# Altium footprint library 2019-12-05_19-06-33.PcbLib: 1 footprints
Each footprint in its own frame and in the unit in brackets; x right, y up, seen from the top. Pads: shape width x height; smd on the part's side, far side on the other; paste and mask are expansions set on the pad; w line width, h text height; cw(c..) or ccw(c..) is an arc to the next point about the centre after c.
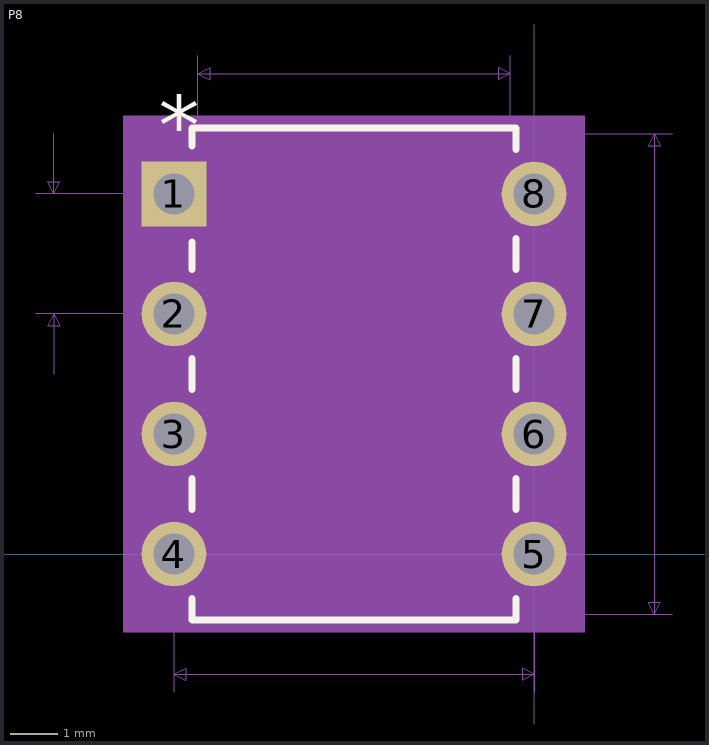
[diagram p0: the footprint, top view; thin cyan lines are the x and y axes]

## P8 [mil]
pads (8):
  rect 54x54 hole 34 mask+0: 1(-300,300)
  round 54 hole 34 mask+0: 2(-300,200) 3(-300,100) 4(-300,0) 5(0,0) 6(0,100) 7(0,200) 8(0,300)
Top Overlay:
  lines w6: -285,-37.19 -285,-55 -15,-55 -15,-37.19 ; -285,37.19 -285,62.81 ; -285,137.19 -285,162.81 ; -285,237.19 -285,259.9 ; -285,340.1 -285,355 -15,355 -15,337.19 ; -15,37.19 -15,62.81 ; -15,137.19 -15,162.81 ; -15,237.19 -15,262.81
  text "*" at -312.5,332 h50
Mechanical 5:
  region: 42,-65 -342,-65 -342,365 42,365
Mechanical 7:
  lines w1: -415,200 -300,200 ; -415,300 -300,300 ; -400,150 -400,200 ; -400,350 -400,300 ; -300,-115 -300,0 ; -280,0 -280,415 ; -150,-50 115,-50 ; -150,350 115,350 ; -20,0 -20,415 ; 0,-115 0,0 ; -400,200 -405,190 -395,190 -400,200 ; -400,300 -405,310 -395,310 -400,300 ; -300,-100 0,-100 ; -300,-100 -290,-95 -290,-105 -300,-100 ; -280,400 -20,400 ; -280,400 -270,405 -270,395 -280,400 ; -20,400 -30,405 -30,395 -20,400 ; 0,-100 -10,-95 -10,-105 0,-100 ; 100,-50 100,350 ; 100,-50 95,-40 105,-40 100,-50 ; 100,350 95,340 105,340 100,350
  text "Default Padstyle: EX54Y54D34P" at -512.5,-277 h50
  text "Pin 1 Padstyle: SX54Y54D34P" at -487.5,-377 h50
  text "Alt 1 Padstyle: OX60Y90D30P" at -487.5,-427 h50
  text "Alt 2 Padstyle: OX90Y60D30P" at -487.5,-477 h50
  text "0.1in/2.54mm" at -570,237.5 h25
  text "0.3in/7.62mm" at -225,-145 h25
  text "0.26in/6.604mm" at -237.5,420 h25
  text "0.4in/10.16mm" at 120,137.5 h25
Mechanical 13:
  lines w0: -162,350 ccw(c-150,350) -138,350
  lines w1: -317,-17 -317,17 -280,17 -280,-17 -317,-17 ; -317,83 -317,117 -280,117 -280,83 -317,83 ; -317,183 -317,217 -280,217 -280,183 -317,183 ; -317,283 -317,317 -280,317 -280,283 -317,283 ; -280,-50 -20,-50 -20,350 -280,350 -280,-50 ; -20,-17 -20,17 17,17 17,-17 -20,-17 ; -20,83 -20,117 17,117 17,83 -20,83 ; -20,183 -20,217 17,217 17,183 -20,183 ; -20,283 -20,317 17,317 17,283 -20,283
  text "*" at -282.5,275 h50
Mechanical 15:
  region: -10,-40 37,-40 37,340 -10,340 -10,360 -290,360 -290,340 -337,340 -337,-40 -290,-40 -290,-60 -10,-60
  lines w6: -337,-40 -337,340 -290,340 -290,360 -10,360 -10,340 37,340 37,-40 -10,-40 -10,-60 -290,-60 -290,-40 -337,-40
3D body: height 10, standoff 0, extent 0,0 10,10